# EAGLE library part CT2105 (library IC & Transistor)
1-cell Li-Ion/Li-Polymer Battery Protection IC Battery polarity protection Charger polarity protection Load short circuit protection Overcharge (voltage) protection: 4.275V Over-discharge (voltage) protection: 2.5V Charge overcurrent protection: 3A at 3.5VDD Discharge overcurrent protection: 3.5A (stage 1) and 6A (stage 2) at 3.5VDD Over temperature protection Typical operating current 4.0uA (max) Current consumption during sleep: 0.1uA Created by: SC Lim
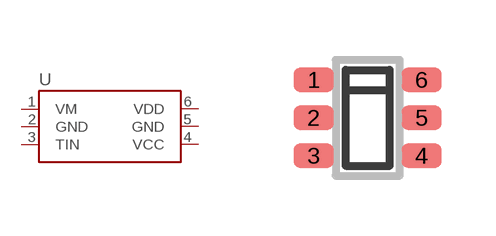
[diagram p76: symbol with the pads of SOT-23-6; footprint SOT-23-6]

Designator prefix U

## CT2105_(SOT23-6) (CYTRON-PC: S-IC-CT2105-SOT23-6; DESC: S Li-Ion/Li-Polymer Battery Protection IC CT2105; MF: Creatic; MPN: CT2105)  [SOT-23-6]
1  VM  pwr
2  GND  pwr
3  TIN
4  VCC  pwr
5  GND  pwr
6  VDD  pwr

## Footprint SOT-23-6 (pad centres in mm)
Small Outline Transistor - 6 Pins (SOT-23-6). Size: 2.9 x 1.6mm Modified by: Wai Weng
smd 1 x 0.6: 1 -1.35,0.95; 2 -1.35,0; 3 -1.35,-0.95; 4 1.35,-0.95; 5 1.35,0; 6 1.35,0.95